# EAGLE library part IC191-0562-003 (library 31813 Neutron Readout PCB)
IC & Component Sockets 56Pin TSOP Burn-in Skt 0.50 pitch Source: Datasheet
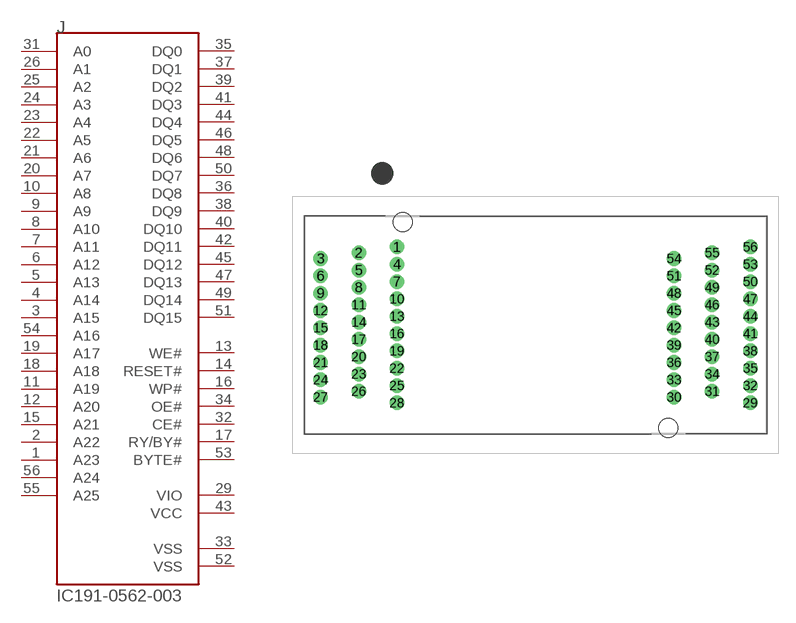
[diagram p20: symbol with the pads of IC1910562003; footprint IC1910562003]

Designator prefix J

## IC191-0562-003 (DESCRIPTION: IC & Component Sockets 56Pin TSOP Burn-in Skt 0.50 pitch; HEIGHT: 19.2mm; MANUFACTURER_NAME: Yamaichi; MANUFACTURER_PART_NUMBER: IC191-0562-003; MOUSER_PART_NUMBER: 945-IC191-0562-003; MOUSER_PRICE-STOCK: https://www.mouser.com/Search/Refine.aspx?Keyword=945-IC191-0562-003)  [IC1910562003]
1  A23  in
2  A22  in
3  A15  in
4  A14  in
5  A13  in
6  A12  in
7  A11  in
8  A10  in
9  A9  in
10  A8  in
11  A19  in
12  A20  in
13  WE#  in
14  RESET#  in
15  A21  in
16  WP#  in
17  RY/BY#  out
18  A18  in
19  A17  in
20  A7  in
21  A6  in
22  A5  in
23  A4  in
24  A3  in
25  A2  in
26  A1  in
29  VIO  pwr
31  A0  in
32  CE#  in
33  VSS  pwr
34  OE#  in
35  DQ0
36  DQ8
37  DQ1
38  DQ9
39  DQ2
40  DQ10
41  DQ3
42  DQ11
43  VCC  pwr
44  DQ4
45  DQ12
46  DQ5
47  DQ13
48  DQ6
49  DQ14
50  DQ7
51  DQ15
52  VSS  pwr
53  BYTE#  in
54  A16  in
55  A25  in
56  A24  in

## Footprint IC1910562003 (pad centres in mm)
IC191-0562-003-5
drill 0.75 pad 1.2: 1 6.6,1; 2 3.3,0.5; 3 0,0; 4 6.6,-0.5; 5 3.3,-1; 6 0,-1.5; 7 6.6,-2; 8 3.3,-2.5; 9 0,-3; 10 6.6,-3.5; 11 3.3,-4; 12 0,-4.5; 13 6.6,-5; 14 3.3,-5.5; 15 0,-6; 16 6.6,-6.5; 17 3.3,-7; 18 0,-7.5; 19 6.6,-8; 20 3.3,-8.5; 21 0,-9; 22 6.6,-9.5; 23 3.3,-10; 24 0,-10.5; 25 6.6,-11; 26 3.3,-11.5; 27 0,-12; 28 6.6,-12.5; 29 37.18,-12.5; 30 30.58,-12; 31 33.88,-11.5; 32 37.18,-11; 33 30.58,-10.5; 34 33.88,-10; 35 37.18,-9.5; 36 30.58,-9; 37 33.88,-8.5; 38 37.18,-8; 39 30.58,-7.5; 40 33.88,-7; 41 37.18,-6.5; 42 30.58,-6; 43 33.88,-5.5; 44 37.18,-5; 45 30.58,-4.5; 46 33.88,-4; 47 37.18,-3.5; 48 30.58,-3; 49 33.88,-2.5; 50 37.18,-2; 51 30.58,-1.5; 52 33.88,-1; 53 37.18,-0.5; 54 30.58,0; 55 33.88,0.5; 56 37.18,1
hole 1.65 at 7.09,3.175
hole 1.65 at 30.09,-14.675